# Altium footprint library EVQPUA02K.PcbLib: 1 footprints
Each footprint in its own frame and in the unit in brackets; x right, y up, seen from the top. Pads: shape width x height; smd on the part's side, far side on the other; paste and mask are expansions set on the pad; w line width, h text height; cw(c..) or ccw(c..) is an arc to the next point about the centre after c.
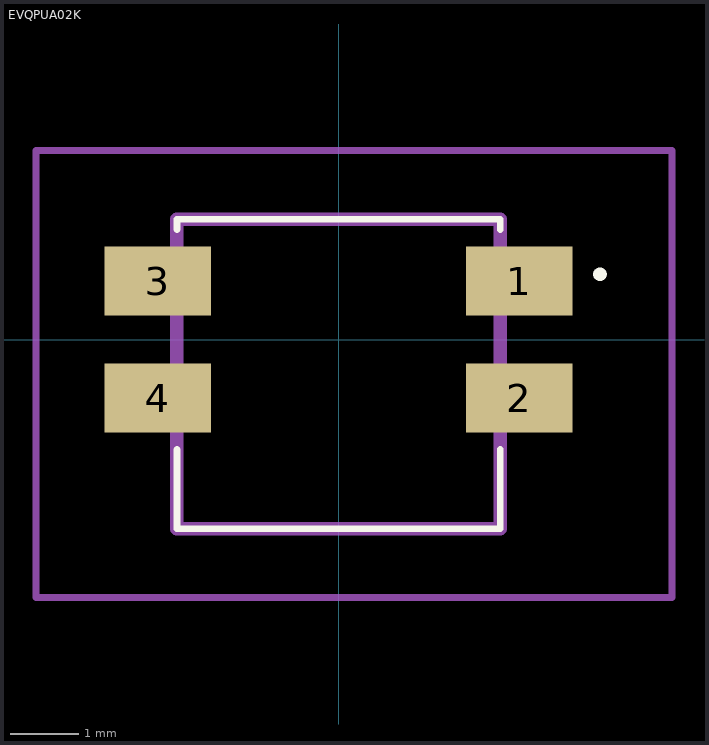
[diagram p0: the footprint, top view; thin cyan lines are the x and y axes]

## EVQPUA02K [mm]
pads (4):
  rect 1.55x1 smd: 1(2.625,0.85) 2(2.625,-0.85) 3(-2.625,0.85) 4(-2.625,-0.85)
Top Overlay:
  lines w0.1: -2.35,-1.6 -2.35,-2.75 2.35,-2.75 2.35,-1.6 ; -2.35,1.6 -2.35,1.75 2.35,1.75 2.35,1.6 ; 3.8,0.9 cw(c3.8,0.95) 3.8,1 ; 3.8,0.9 3.8,0.9 ; 3.8,0.9 ccw(c3.8,0.95) 3.8,1 ; 3.8,1 3.8,1
Mechanical 15:
  lines w0.2: -2.35,-2.75 2.35,-2.75 2.35,1.75 -2.35,1.75 -2.35,-2.75
Mechanical 20:
  lines w0.1: -4.4,-3.75 4.85,-3.75 4.85,2.75 -4.4,2.75 -4.4,-3.75